# EAGLE library part MAX_485_DEV (library blizzard_board)
MAX 485
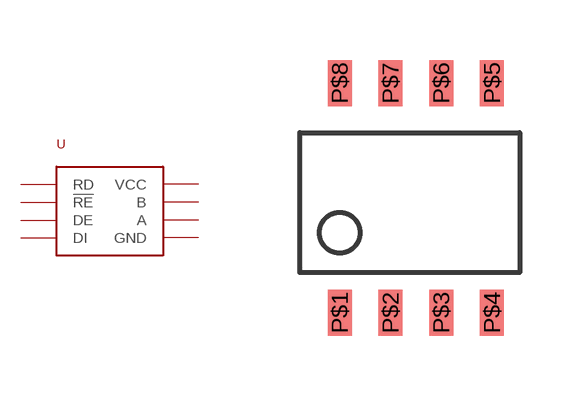
[diagram p2: symbol with the pads of MAX_485_PKG; footprint MAX_485_PKG]

Designator prefix U

## MAX_485_DEV  [MAX_485_PKG]
P$1  RD
P$2  !RE
P$3  DE
P$4  DI
P$5  GND
P$6  A
P$7  B
P$8  VCC

## Footprint MAX_485_PKG (pad centres in mm)
smd 0.6 x 1.15: P$1 0,0; P$2 1.27,0; P$3 2.54,0; P$4 3.81,0; P$5 3.81,5.74; P$6 2.54,5.74; P$7 1.27,5.74; P$8 0,5.74